# Altium integrated library Transistors.IntLib: 32 symbols
Pins are listed as number, name and electrical type; pins without a type are passive.

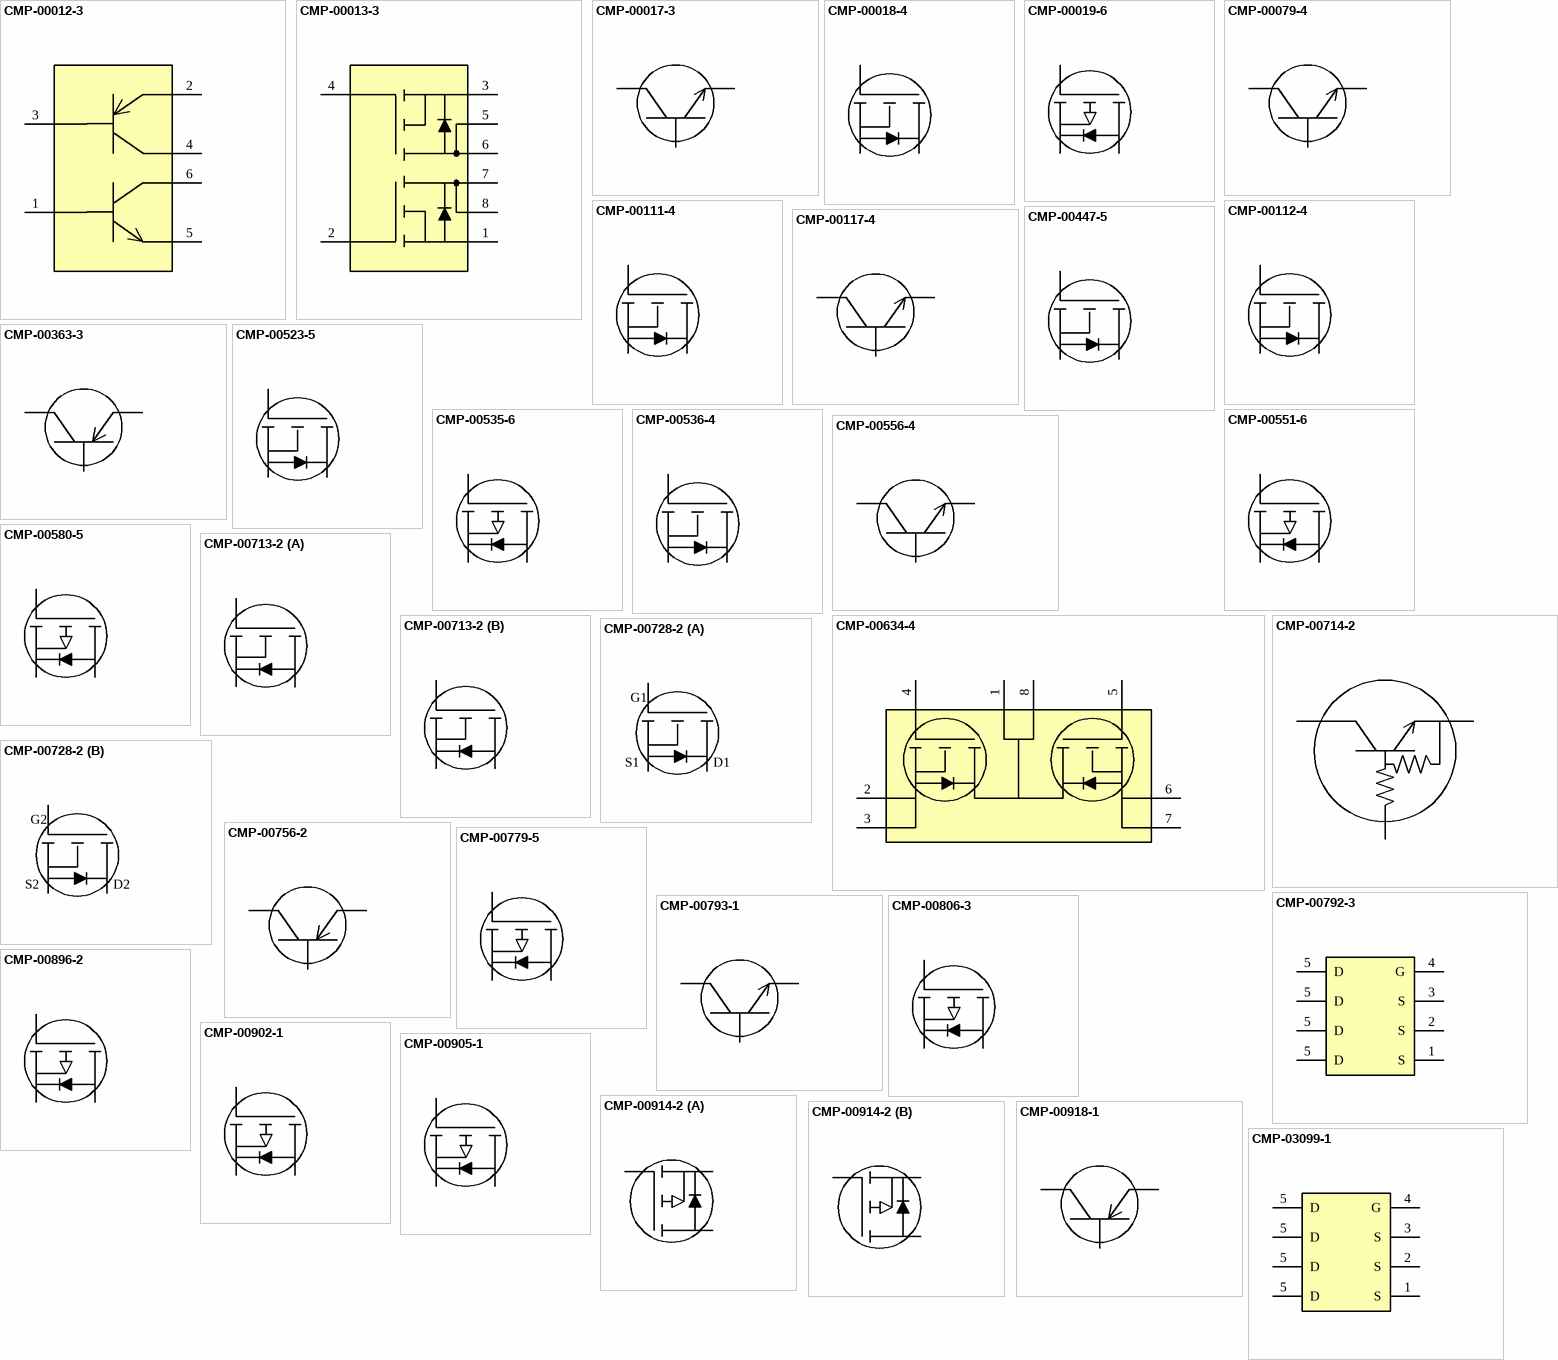
[diagram p0: symbols CMP-00012-3 to CMP-03099-1]

## CMP-00012-3
designator VT?, comment FMB3946
Component Name: NPN&PNP Transistors, FMB3946, SSOT 6L; Package: SSOT 6L; Marking: FMB3946; Value: FMB3946; ComponentLink1Description: Datasheet; ComponentLink1URL: https://www.fairchildsemi.com/datasheets/FM/FMB3946.pdf; Mounting type: SMD
footprint SSTOT 6L
pins: 1 B1, 2 E2, 3 B2, 4 C2, 5 E1, 6 C1

## CMP-00013-3
designator VT?, comment IRF7343PbF
Component Name: N&P Channel MOSFET Transistor, IRF7343PbF, SO-8; Package: SO-8; Marking: IRF7343PbF; Value: IRF7343PbF; ComponentLink1Description: Datasheet; ComponentLink1URL: http://www.irf.com/product-info/datasheets/data/irf7343pbf.pdf; Mounting type: SMD
footprint SO-8
pins: 1 S1, 2 G1, 3 S2, 4 G2, 5 D2, 6 D2, 7 D1, 8 D1

## CMP-00017-3
designator VT?, comment FJV3110R
Component Name: NPN Epitaxial Silicon Transistor, FJV3110R, SOT-23; Package: SOT-23; Marking: FJV3110R; Value: FJV3110R; ComponentLink1Description: Datasheet; ComponentLink1URL: https://www.fairchildsemi.com/datasheets/FJ/FJV3110R.pdf; Mounting type: SMD
footprint SOT23
footprint SOT-23
pins: 1, 2, 3

## CMP-00018-4
designator VT?, comment B ** **
IRLML2803; Component Name: N-Channel MOSFET Transistor, IRLML2803,SOT-23; Package: SOT-23; Marking: B ** **; Value: IRLML2803; ComponentLink1Description: Datasheet; ComponentLink1URL: http://www.irf.com/product-info/datasheets/data/irlml2803.pdf; Mounting type: SMD
footprint SOT23
footprint SOT-23
pins: 1, 2, 3

## CMP-00019-6
designator VT?, comment F ** **
IRLML6401; Component Name: P-Channel MOSFET Transistor, IRLML6401, SOT-23; Package: SOT-23; Marking: F ** **; Value: IRLML6401; ComponentLink1Description: Datasheet; ComponentLink1URL: http://www.irf.com/product-info/datasheets/data/irlml6401.pdf; Mounting type: SMD
footprint SOT23
footprint SOT-23
pins: 1, 2, 3

## CMP-00079-4
designator VT?, comment BC817
Component Name: NPN general-purpose transistor, BC817, SOT-23; Package: SOT-23; Marking: BC817; Value: BC817; ComponentLink1Description: Datasheet; ComponentLink1URL: http://www.nxp.com/documents/data_sheet/BC817_BC817W_BC337.pdf; Mounting type: SMD
footprint SOT23
footprint SOT-416
footprint SOT-23
pins: 1, 2, 3

## CMP-00111-4
designator VT?, comment A ** **
IRLML2402; Component Name: N-Channel MOSFET Transistor, IRLML2402,SOT-23; Package: SOT-23; Marking: A ** **; Value: IRLML2402; ComponentLink1Description: Datasheet; ComponentLink1URL: http://www.irf.com/product-info/datasheets/data/irlml2402.pdf; Mounting type: SMD
footprint SOT23
footprint SOT-23
pins: 1, 2, 3

## CMP-00112-4
designator VT?, comment IRLML2502
Component Name: N-Channel MOSFET Transistor, IRLML2502,SOT-23; Package: SOT-23; Marking: IRLML2502; Value: IRLML2502; ComponentLink1Description: Datasheet; ComponentLink1URL: http://www.irf.com/product-info/datasheets/data/irlml2502.pdf; Mounting type: SMD
footprint SOT23
footprint SOT-23
pins: 1, 2, 3

## CMP-00117-4
designator VT?, comment BC848
Component Name: NPN Small Signal Transistors, BC848, SOT-23; Package: SOT-23; Marking: BC848; Value: BC848; ComponentLink1Description: Datasheet; ComponentLink1URL: http://pdf1.alldatasheetcn.com/datasheet-pdf/view/61940/GE/BC848.html; Mounting type: SMD
footprint SOT23
footprint SOT-23
pins: 1, 2, 3

## CMP-00363-3
designator VT?, comment BC857
Component Name: PNP general-purpose transistor, BC857, SOT-23; Package: SOT-23; Marking: BC857; Value: BC857; ComponentLink1Description: Datasheet; ComponentLink1URL: http://www.nxp.com/documents/data_sheet/BC856_BC857_BC858.pdf; Mounting type: SMD
footprint SOT23
footprint SOT-23
pins: 1, 2, 3

## CMP-00447-5
designator VT?, comment IRF610
IRF610PBF; Component Name: N-Channel MOSFET Transistor, IRF610PBF, TO-220; Package: TO-220; Marking: IRF610; Value: IRF610PBF; ComponentLink1Description: Datasheet; ComponentLink1URL: http://www.irf.com/product-info/datasheets/data/irf610pbf.pdf; Mounting type: PTH
footprint TO-220 3 mm R
footprint TO-220AB
footprint TO-220 R
pins: 1, 2, 3

## CMP-00523-5
designator VT?, comment IRFR320
Component Name: N-Channel MOSFET Transistor, IRFR320, DPAK; Package: DPAK; Marking: IRFR320; Value: IRFR320; ComponentLink1Description: Datasheet; ComponentLink1URL: http://www.vishay.com/docs/91273/sihfr320.pdf; Mounting type: SMD
footprint DPAK
pins: 1, 2, 3

## CMP-00535-6
designator VT?, comment CSD25483F4
Component Name: P-Channel MOSFET Transistor, CSD25483F4, 0402; Package: 0402; Marking: CSD25483F4; Value: CSD25483F4; ComponentLink1Description: Datasheet; ComponentLink1URL: http://www.ti.com/lit/ds/symlink/csd25483f4.pdf; Mounting type: SMD
footprint 0402
pins: 1, 2, 3

## CMP-00536-4
designator VT?, comment CSD13381F4
Component Name: N-Channel MOSFET Transistor, CSD13381F4, 0402; Package: 0402; Marking: CSD13381F4; Value: CSD13381F4; ComponentLink1Description: Datasheet; ComponentLink1URL: http://www.ti.com/lit/ds/slps448d/slps448d.pdf; Mounting type: SMD
footprint 0402
pins: 1, 2, 3

## CMP-00551-6
designator VT?, comment Si5429DU
Component Name: P-Channel MOSFET Transistor, Si5429DU, PowerPAK ChipFET Single 8; Package: PowerPAK ChipFET Single 8; Marking: Si5429DU; Value: Si5429DU; ComponentLink1Description: Datasheet; ComponentLink1URL: http://www.vishay.com/docs/63933/si5429du.pdf; Mounting type: SMD
footprint PowerPAK single 8
pins: 1, 2, 3

## CMP-00556-4
designator VT?, comment BC847
BC847, SOT-416; Component Name: NPN general-purpose transistors, BC847, SOT-416; Package: SOT-416; Marking: BC847; Value: BC847; ComponentLink1Description: Datasheet; ComponentLink1URL: https://store.comet.bg/download-file.php?id=2307; Mounting type: SMD
footprint SOT-416
pins: 1, 2, 3

## CMP-00580-5
designator VT?, comment DMP3099L-7
Component Name: P-Channel MOSFET Transistor, DMP3099L-7, SOT-23; Package: SOT-23; Marking: DMP3099L-7; Value: DMP3099L-7; ComponentLink1Description: Datasheet; ComponentLink1URL: https://www.diodes.com/assets/Datasheets/DMP3099L.pdf; Mounting type: SMD
footprint SOT23
footprint SOT-23
pins: 1, 2, 3

## CMP-00634-4
designator VT?, comment FS8205A
Component Name: Dual N-channel Enhancement Mode Power MOSFET, FS8205A, TSSOP-8; Package: TSSOP-8; Marking: FS8205A; Value: FS8205A; ComponentLink1Description: Datasheet; ComponentLink1URL: http://www.ic-fortune.com/upload/Download/FS8205A-DS-12_EN.pdf; Mounting type: SMD
footprint TSSOP-8
pins: 1, 2 "2.3", 3 "2.3", 4, 5, 6, 7, 8

## CMP-00713-2
designator VT?, comment DMP3098LSD
Component Name: DUAL P-Channel MOSFET Transistor, DMP3098LSD, SO-8; Package: SO-8; Marking: DMP3098LSD; Value: DMP3098LSD; ComponentLink1Description: Datasheet; ComponentLink1URL: http://www.mouser.com/ds/2/115/ds31448-52138.pdf; Mounting type: SMD
footprint SO-8
part A pins: 1, 2, 7, 8
part B pins: 3, 4, 5, 6

## CMP-00714-2
designator VT?, comment A8J
MMUN2232LT1G; Component Name: NPN Transistors with Monolithic Bias Resistor Network, MMUN2232LT1G, SOT-23; Package: SOT-23; Marking: A8J; Value: MMUN2232LT1G; ComponentLink1Description: Datasheet; ComponentLink1URL: http://www.mouser.com/ds/2/308/DTC143E-D-278514.pdf; Mounting type: SMD
footprint SOT23
footprint SOT-23
pins: 1, 2, 3

## CMP-00728-2
designator VT?, comment AO4882
Component Name: Dual N-channel MOSFET, AO4882, SO-8; Package: SO-8; Marking: AO4882; Value: AO4882; ComponentLink1Description: Datasheet; ComponentLink1URL: http://aosmd.com/res/data_sheets/AO4882.pdf; Mounting type: SMD
footprint SO-8
part A pins: 3, 4 G1, 5, 6
part B pins: 1, 2, 7, 8
part A text: S1; D1
part B text: G2; S2; D2

## CMP-00756-2
designator VT?, comment BC807
Component Name: PNP general-purpose transistor, BC807, SOT-23; Package: SOT-23; Marking: BC807; Value: BC807; ComponentLink1Description: Datasheet; ComponentLink1URL: http://www.onsemi.ru.com/PowerSolutions/document/BC807-16LT1-D.PDF; Mounting type: SMD
footprint SOT23
footprint SOT-23
pins: 1, 2, 3

## CMP-00779-5
designator VT?, comment FFD4141
Component Name: P-Channel PowerTrench MOSFET Transistor,FFD4141, DPAK; Package: DPAK; Marking: FFD4141; Value: FFD4141; ComponentLink1Description: Datasheet; ComponentLink1URL: http://www.mouser.com/ds/2/149/FDD4141-348236.pdf; Mounting type: SMD
footprint DPAK
pins: 1, 2, 3

## CMP-00792-3
designator Q?, comment IRLHM620
IRLHM620PbF; Component Name: HEXFET Power MOSFET, IRLHM620PbF, PQFN-8 3x3mm; ComponentLink1URL: https://www.infineon.com/dgdl/irlhm620pbf.pdf?fileId=5546d462533600a4015356638be325a3; Value: IRLHM620PbF; ComponentLink1Description: Datasheet; Mounting type: SMD; Marking: IRLHM620; Package: PQFN-8 3x3
footprint PQFN-8 3.3x3.3
pins: 1 S, 2 S, 3 S, 4 G, 5 D, 5 D, 5 D, 5 D

## CMP-00793-1
designator VT?, comment BC847
BC847, SOT-23; Component Name: NPN general-purpose transistors, BC847, SOT-23; ComponentLink1URL: https://store.comet.bg/download-file.php?id=2307; Value: BC847; ComponentLink1Description: Datasheet; Mounting type: SMD; Marking: BC847; Package: SOT-23
footprint SOT23
footprint SOT-23
pins: 1, 2, 3

## CMP-00806-3
designator VT?, comment P02
ZXM61P02FCT-ND; Component Name: P-Channel MOSFET Transistor, ZXM61P02FCT-ND, SOT-23; ComponentLink1URL: https://www.diodes.com/assets/Datasheets/ZXM61P02F.pdf; Value: ZXM61P02FCT-ND; ComponentLink1Description: Datasheet; Mounting type: SMD; Marking: P02; Package: SOT-23
footprint SOT23
footprint SOT-23
pins: 1, 2, 3

## CMP-00896-2
designator VT?, comment IRFR9020
Component Name: P-Channel Power MOSFET Transistor, IRFR9020, DPAK; ComponentLink1URL: http://www.vishay.com/docs/90350/sihfr902.pdf; Value: IRFR9020; ComponentLink1Description: Datasheet; Mounting type: SMD; Marking: IRFR9020; Package: DPAK
footprint DPAK
pins: 1, 2, 3

## CMP-00902-1
designator VT?, comment STD35P6LLF6
Component Name: P-Channel Power MOSFET Transistor, STD35P6LLF6, DPAK; ComponentLink1URL: https://www.st.com/content/ccc/resource/technical/document/datasheet/group3/8e/46/ef/8c/50/3b/4b/6a/DM00101433/files/DM00101433.pdf/jcr:content/translations/en.DM00101433.pdf; Value: STD35P6LLF6; ComponentLink1Description: Datasheet; Mounting type: SMD; Marking: STD35P6LLF6; Package: DPAK
footprint DPAK
pins: 1, 2, 3

## CMP-00905-1
designator VT?, comment STD15P6F6AG
Component Name: P-Channel Power MOSFET Transistor, STD15P6F6AG, DPAK; ComponentLink1URL: https://www.st.com/content/ccc/resource/technical/document/datasheet/de/b0/9a/74/b4/1f/48/c9/DM00235850.pdf/files/DM00235850.pdf/jcr:content/translations/en.DM00235850.pdf; Value: STD15P6F6AG; ComponentLink1Description: Datasheet; Mounting type: SMD; Marking: STD15P6F6AG; Package: DPAK
footprint DPAK
pins: 1, 2, 3

## CMP-00914-2
designator VT?, comment NTHD
NTHD4102PT1G; Component Name: Dual P-Channel Power MOSFET, NTHD4102PT1G, SMD-8; ComponentLink1URL: http://www.onsemi.com/pub/Collateral/NTHD4102P-D.PDF; Value: NTHD4102PT1G; ComponentLink1Description: Datasheet; Mounting type: SMD; Marking: NTHD; Package: SMD-8
footprint SMD-8
part A pins: 1, 2, 7, 8
part B pins: 3, 4, 5, 6

## CMP-00918-1
designator VT?, comment MMBT
MMBT3906-7-F; Component Name: PNP general-purpose transistor, MMBT3906-7-F, SOT-23; ComponentLink1URL: https://media.digikey.com/pdf/Data%20Sheets/Diodes%20PDFs/MMBT3906.pdf; Value: MMBT3906-7-F; ComponentLink1Description: Datasheet; Mounting type: SMD; Marking: MMBT; Package: SOT-23
footprint SOT23
footprint SOT-23
pins: 1, 2, 3

## CMP-03099-1
designator Q?, comment IRFH8201
IRFH8201PbF; Component Name: HEXFET Power MOSFET, IRFH8201PbF, PQFN-8 5x6mm; ComponentLink1URL: https://www.infineon.com/dgdl/Infineon-IRFH8201-DS-v01_01-EN.pdf?fileId=5546d462533600a40153561f75651f0a; Value: IRFH8201PbF; ComponentLink1Description: Datasheet; Mounting type: SMD; Marking: IRFH8201; Package: PQFN-8 5x6
footprint PQFN 5x6mm
pins: 1 S, 2 S, 3 S, 4 G, 5 D, 5 D, 5 D, 5 D